# Altium footprint library ES_Pcb_x.PcbLib: 354 footprints (part 21 of 23)
Each footprint in its own frame and in the unit in brackets; x right, y up, seen from the top. Pads: shape width x height; smd on the part's side, far side on the other; paste and mask are expansions set on the pad; w line width, h text height; cw(c..) or ccw(c..) is an arc to the next point about the centre after c.
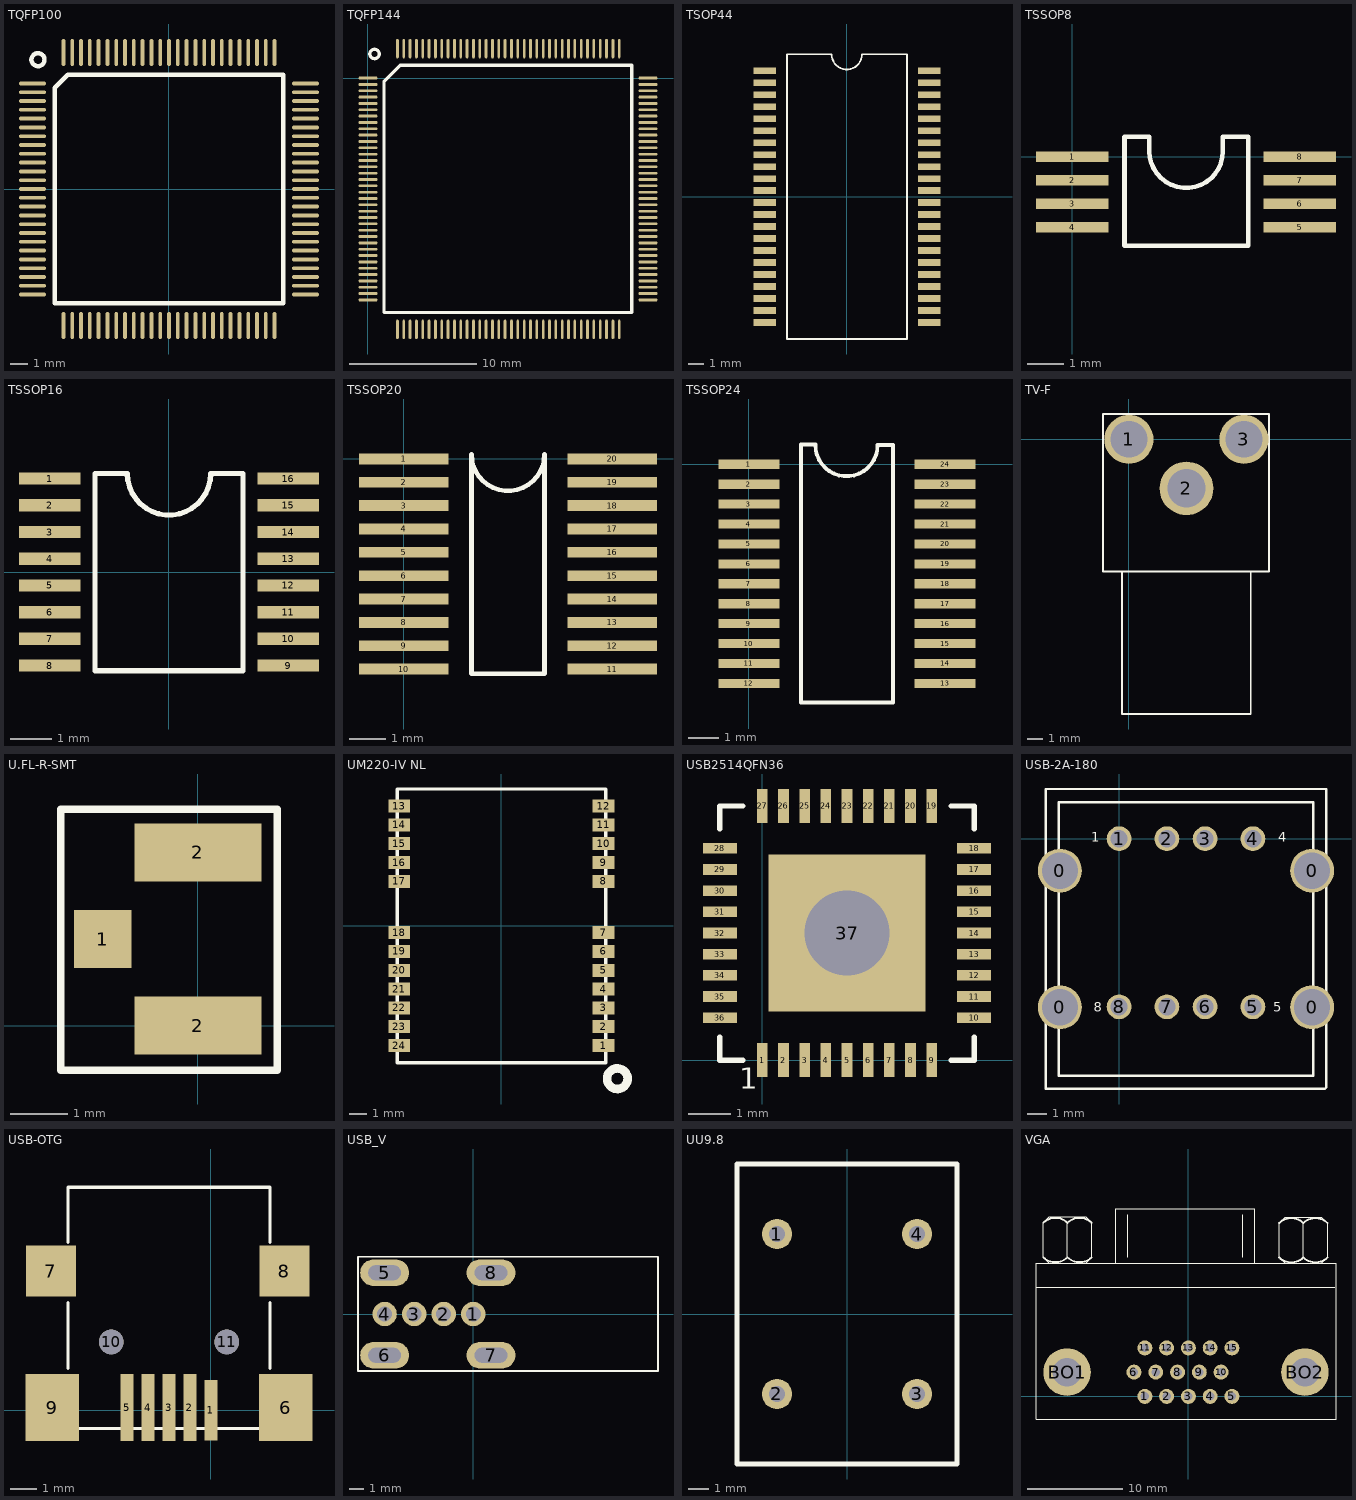
[diagram p20: the footprints below, top view; thin cyan lines are the x and y axes]

## TQFP100 [mm]
pads (100):
  oct 1.524x0.22 smd: 1(-7.762,6) 2(-7.762,5.5) 3(-7.762,5) 4(-7.762,4.5) 5(-7.762,4) 6(-7.762,3.5) 7(-7.762,3) 8(-7.762,2.5) 9(-7.762,2) 10(-7.762,1.5) 11(-7.762,1) 12(-7.762,0.5) 13(-7.762,0) 14(-7.762,-0.5) 15(-7.762,-1) 16(-7.762,-1.5) 17(-7.762,-2) 18(-7.762,-2.5) 19(-7.762,-3) 20(-7.762,-3.5) 21(-7.762,-4) 22(-7.762,-4.5) 23(-7.762,-5) 24(-7.762,-5.5) 25(-7.762,-6) 52(7.762,-5.5) 53(7.762,-5) 54(7.762,-4.5) 55(7.762,-4) 56(7.762,-3.5) 57(7.762,-3) 58(7.762,-2.5) 59(7.762,-2) 60(7.762,-1.5) 61(7.762,-1) 62(7.762,-0.5) 63(7.762,0) 64(7.762,0.5) 65(7.762,1) 66(7.762,1.5) 67(7.762,2) 68(7.762,2.5) 69(7.762,3) 70(7.762,3.5) 71(7.762,4) 72(7.762,4.5) 73(7.762,5) 74(7.762,5.5) 75(7.762,6)
  oct 0.22x1.524 smd: 26(-6,-7.762) 27(-5.5,-7.762) 28(-5,-7.762) 29(-4.5,-7.762) 30(-4,-7.762) 31(-3.5,-7.762) 32(-3,-7.762) 33(-2.5,-7.762) 34(-2,-7.762) 35(-1.5,-7.762) 36(-1,-7.762) 37(-0.5,-7.762) 38(0,-7.762) 39(0.5,-7.762) 40(1,-7.762) 41(1.5,-7.762) 42(2,-7.762) 43(2.5,-7.762) 44(3,-7.762) 45(3.5,-7.762) 46(4,-7.762) 47(4.5,-7.762) 48(5,-7.762) 49(5.5,-7.762) 50(6,-7.762) 76(6,7.762) 77(5.5,7.762) 78(5,7.762) 79(4.5,7.762) 80(4,7.762) 81(3.5,7.762) 82(3,7.762) 83(2.5,7.762) 84(2,7.762) 85(1.5,7.762) 86(1,7.762) 87(0.5,7.762) 88(0,7.762) 89(-0.5,7.762) 90(-1,7.762) 91(-1.5,7.762) 92(-2,7.762) 93(-2.5,7.762) 94(-3,7.762) 95(-3.5,7.762) 96(-4,7.762) 97(-4.5,7.762) 98(-5,7.762) 99(-5.5,7.762) 100(-6,7.762)
  oct 1.524x0.22 smd mask+0.102: 51(7.762,-6)
Top Overlay:
  circle w0.254: c-7.445,7.35 r0.37
  lines w0.254: -5.75,6.492 6.492,6.492 6.492,-6.492 -6.492,-6.492 -6.492,5.746 -5.748,6.49

## TQFP144 [mm]
pads (144):
  oct 1.524x0.22 smd: 1(0,0) 2(0,-0.5) 3(0,-1) 4(0,-1.5) 5(0,-2) 6(0,-2.5) 7(0,-3) 8(0,-3.5) 9(0,-4) 10(0,-4.5) 11(0,-5) 12(0,-5.5) 13(0,-6) 14(0,-6.5) 15(0,-7) 16(0,-7.5) 17(0,-8) 18(0,-8.5) 19(0,-9) 20(0,-9.5) 21(0,-10) 22(0,-10.5) 23(0,-11) 24(0,-11.5) 25(0,-12) 26(0,-12.5) 27(0,-13) 28(0,-13.5) 29(0,-14) 30(0,-14.5) 31(0,-15) 32(0,-15.5) 33(0,-16) 34(0,-16.5) 35(0,-17) 36(0,-17.5) 73(22.098,-17.5) 74(22.098,-17) 75(22.098,-16.5) 76(22.098,-16) 77(22.098,-15.5) 78(22.098,-15) 79(22.098,-14.5) 80(22.098,-14) 81(22.098,-13.5) 82(22.098,-13) 83(22.098,-12.5) 84(22.098,-12) 85(22.098,-11.5) 86(22.098,-11) 87(22.098,-10.5) 88(22.098,-10) 89(22.098,-9.5) 90(22.098,-9) 91(22.098,-8.5) 92(22.098,-8) 93(22.098,-7.5) 94(22.098,-7) 95(22.098,-6.5) 96(22.098,-6) 97(22.098,-5.5) 98(22.098,-5) 99(22.098,-4.5) 100(22.098,-4) 101(22.098,-3.5) 102(22.098,-3) 103(22.098,-2.5) 104(22.098,-2) 105(22.098,-1.5) 106(22.098,-1) 107(22.098,-0.5) 108(22.098,0)
  oct 0.22x1.524 smd: 37(2.323,-19.823) 38(2.823,-19.823) 39(3.323,-19.823) 40(3.823,-19.823) 41(4.323,-19.823) 42(4.823,-19.823) 43(5.323,-19.823) 44(5.823,-19.823) 45(6.323,-19.823) 46(6.823,-19.823) 47(7.323,-19.823) 48(7.823,-19.823) 49(8.323,-19.823) 50(8.823,-19.823) 51(9.323,-19.823) 52(9.823,-19.823) 53(10.323,-19.823) 54(10.823,-19.823) 55(11.323,-19.823) 56(11.823,-19.823) 57(12.323,-19.823) 58(12.823,-19.823) 59(13.323,-19.823) 60(13.823,-19.823) 61(14.323,-19.823) 62(14.823,-19.823) 63(15.323,-19.823) 64(15.823,-19.823) 65(16.323,-19.823) 66(16.823,-19.823) 67(17.323,-19.823) 68(17.823,-19.823) 69(18.323,-19.823) 70(18.823,-19.823) 71(19.323,-19.823) 72(19.823,-19.823) 109(19.823,2.323) 110(19.323,2.323) 111(18.823,2.323) 112(18.323,2.323) 113(17.823,2.323) 114(17.323,2.323) 115(16.823,2.323) 116(16.323,2.323) 117(15.823,2.323) 118(15.323,2.323) 119(14.823,2.323) 120(14.323,2.323) 121(13.823,2.323) 122(13.323,2.323) 123(12.823,2.323) 124(12.323,2.323) 125(11.823,2.323) 126(11.323,2.323) 127(10.823,2.323) 128(10.323,2.323) 129(9.823,2.323) 130(9.323,2.323) 131(8.823,2.323) 132(8.323,2.323) 133(7.823,2.323) 134(7.323,2.323) 135(6.823,2.323) 136(6.323,2.323) 137(5.823,2.323) 138(5.323,2.323) 139(4.823,2.323) 140(4.323,2.323) 141(3.823,2.323) 142(3.323,2.323) 143(2.823,2.323) 144(2.323,2.323)
Top Overlay:
  circle w0.254: c0.519,1.905 r0.37
  lines w0.254: 1.27,-18.496 1.27,-17.663 1.27,-0.254 2.54,1.016 19.839,1.016 20.819,1.016 20.819,-17.86 20.819,-18.496 20.073,-18.496 1.27,-18.496

## TSOP44 [mm]
pads (44):
  rect 1.5x0.45 smd: 1(-5.5,8.4) 2(-5.5,7.6) 3(-5.5,6.8) 4(-5.5,6) 5(-5.5,5.2) 6(-5.5,4.4) 7(-5.5,3.6) 8(-5.5,2.8) 9(-5.5,2) 10(-5.5,1.2) 11(-5.5,0.4) 12(-5.5,-0.4) 13(-5.5,-1.2) 14(-5.5,-2) 15(-5.5,-2.8) 16(-5.5,-3.6) 17(-5.5,-4.4) 18(-5.5,-5.2) 19(-5.5,-6) 20(-5.5,-6.8) 21(-5.5,-7.6) 22(-5.5,-8.4) 23(5.5,-8.4) 24(5.5,-7.6) 25(5.5,-6.8) 26(5.5,-6) 27(5.5,-5.2) 28(5.5,-4.4) 29(5.5,-3.6) 30(5.5,-2.8) 31(5.5,-2) 32(5.5,-1.2) 33(5.5,-0.4) 34(5.5,0.4) 35(5.5,1.2) 36(5.5,2) 37(5.5,2.8) 38(5.5,3.6) 39(5.5,4.4) 40(5.5,5.2) 41(5.5,6) 42(5.5,6.8) 43(5.5,7.6) 44(5.5,8.4)
Top Overlay:
  lines w0.127: 3.968,9.5 1,9.5 cw(c-0.016,9.5) -1.032,9.5 -4,9.5 -4,-9.5 4,-9.5 4,9.5

## TSSOP8 [mm]
pads (8):
  rect 2x0.3 smd: 1(0,0) 2(0,-0.65) 3(0,-1.3) 4(0,-1.95) 5(6.299,-1.95) 6(6.299,-1.3) 7(6.299,-0.65) 8(6.299,0)
Top Overlay:
  lines w0.127: 1.448,-2.464 1.448,0.559 2.138,0.559 2.138,0.152 ccw(c3.154,0.152) 4.17,0.152 4.17,0.559 4.877,0.559 4.877,-2.464 1.448,-2.464

## TSSOP16 [mm]
pads (16):
  rect 1.5x0.3 smd: 1(-2.9,2.275) 2(-2.9,1.625) 3(-2.9,0.975) 4(-2.9,0.325) 5(-2.9,-0.325) 6(-2.9,-0.975) 7(-2.9,-1.625) 8(-2.9,-2.275) 9(2.9,-2.275) 10(2.9,-1.625) 11(2.9,-0.975) 12(2.9,-0.325) 13(2.9,0.325) 14(2.9,0.975) 15(2.9,1.625) 16(2.9,2.275)
Top Overlay:
  lines w0.127: -1.8,-2.402 1.8,-2.402 1.8,2.402 1.016,2.402 cw(c0,2.402) -1.016,2.402 -1.8,2.402 -1.8,-2.402

## TSSOP20 [mm]
pads (20):
  rect 2.5x0.3 smd: 1(0,0) 2(0,-0.65) 3(0,-1.3) 4(0,-1.95) 5(0,-2.6) 6(0,-3.25) 7(0,-3.9) 8(0,-4.55) 9(0,-5.2) 10(0,-5.85) 11(5.8,-5.85) 12(5.8,-5.2) 13(5.8,-4.55) 14(5.8,-3.9) 15(5.8,-3.25) 16(5.8,-2.6) 17(5.8,-1.95) 18(5.8,-1.3) 19(5.8,-0.65) 20(5.8,0)
Top Overlay:
  lines w0.127: 1.884,-5.977 3.916,-5.977 3.916,0.127 cw(c2.9,0.127) 1.884,0.127 1.884,-5.977

## TSSOP24 [mm]
pads (24):
  rect 2x0.3 smd: 1(0,0) 2(0,-0.65) 3(0,-1.3) 4(0,-1.95) 5(0,-2.6) 6(0,-3.25) 7(0,-3.9) 8(0,-4.55) 9(0,-5.2) 10(0,-5.85) 11(0,-6.5) 12(0,-7.15) 13(6.4,-7.15) 14(6.4,-6.5) 15(6.4,-5.85) 16(6.4,-5.2) 17(6.4,-4.55) 18(6.4,-3.9) 19(6.4,-3.25) 20(6.4,-2.6) 21(6.4,-1.95) 22(6.4,-1.3) 23(6.4,-0.65) 24(6.4,0)
Top Overlay:
  lines w0.127: 2.168,0.625 ccw(c3.184,0.625) 4.2,0.625 ; 2.168,0.65 1.7,0.65 1.7,-7.775 4.7,-7.775 4.7,0.625 4.232,0.625

## TV-F [mm]
pads (3):
  round 3.2 hole 2.4: 1(0,0) 3(7.5,0)
  round 3.5 hole 2.5: 2(3.75,-3.2)
Top Overlay:
  lines w0.127: -1.626,-8.611 9.119,-8.611 9.119,-8.433 9.119,-8.5 9.119,1.448 9.119,1.397 9.119,1.651 -1.549,1.651 -1.422,1.651 -1.676,1.651 -1.676,-8.5 -1.676,-8.611 -1.473,-8.611 ; -0.457,-8.611 -0.457,-17.911 7.943,-17.911 7.943,-8.654 7.899,-8.611

## U.FL-R-SMT [mm]
pads (3):
  rect 1x1 smd: 1(-1.65,1.5)
  rect 2.2x1 smd: 2(0,0) 2(0,3)
Top Overlay:
  lines w0.127: -2.375,-0.775 -2.375,3.75 1.375,3.75 1.375,-0.775 -2.375,-0.775

## UM220-IV NL [mm]
pads (24):
  rect 1.27x0.76 smd: 1(5.975,-7) 2(5.975,-5.9) 3(5.975,-4.8) 4(5.975,-3.7) 5(5.975,-2.6) 6(5.975,-1.5) 7(5.975,-0.4) 8(5.975,2.6) 9(5.975,3.7) 10(5.975,4.8) 11(5.975,5.9) 12(5.975,7) 13(-5.975,7) 14(-5.975,5.9) 15(-5.975,4.8) 16(-5.975,3.7) 17(-5.975,2.6) 18(-5.975,-0.4) 19(-5.975,-1.5) 20(-5.975,-2.6) 21(-5.975,-3.7) 22(-5.975,-4.8) 23(-5.975,-5.9) 24(-5.975,-7)
Top Overlay:
  circle w0.5: c6.778,-8.94 r0.602
  lines w0.2: -6.1,-8 -6.1,8 6.1,8 6.1,-8 -6.1,-8

## USB2514QFN36 [mm]
pads (37):
  rect 0.25x0.8 smd: 1(0,0) 2(0.5,0) 3(1,0) 4(1.5,0) 5(2,0) 6(2.5,0) 7(3,0) 8(3.5,0) 9(4,0) 19(4,6) 20(3.5,6) 21(3,6) 22(2.5,6) 23(2,6) 24(1.5,6) 25(1,6) 26(0.5,6) 27(0,6)
  rect 0.8x0.25 smd: 10(5,1) 11(5,1.5) 12(5,2) 13(5,2.5) 14(5,3) 15(5,3.5) 16(5,4) 17(5,4.5) 18(5,5) 28(-1,5) 29(-1,4.5) 30(-1,4) 31(-1,3.5) 32(-1,3) 33(-1,2.5) 34(-1,2) 35(-1,1.5) 36(-1,1)
  rect 3.7x3.7 hole 2: 37(2,3)
Top Overlay:
  lines w0.127: -1,0.539 -1,0 -0.461,0 ; -1,5.461 -1,6 -0.461,6 ; 4.461,0 5,0 5,0.539 ; 4.461,6 5,6 5,5.461
  text "1" at -0.54,-0.683 h0.5

## USB-2A-180 [mm]
pads (12):
  round 2.3 hole 1.9: 0(-3.1,-8.825) 0(-3.1,-1.675) 0(10.1,-8.825) 0(10.1,-1.675)
  round 1.3 hole 0.9: 1(0,0) 2(2.5,0) 3(4.5,0) 4(7,0) 5(7,-8.8) 6(4.5,-8.8) 7(2.5,-8.8) 8(0,-8.8)
Top Overlay:
  lines w0.127: -3.15,-13.1 10.15,-13.1 10.757,-13.1 10.85,-13.007 10.85,-12.4 10.85,1.9 10.85,2.586 10.836,2.6 10.15,2.6 -3.85,2.6 -3.85,-13.102 -3.848,-13.1 -3.104,-13.1 ; -3.15,-12.4 -3.15,1.9 10.15,1.9 10.15,-12.4 -3.15,-12.4
  text "1" at -1.453,-0.164 h0.5
  text "4" at 8.326,-0.164 h0.5
  text "5" at 8.072,-9.054 h0.5
  text "8" at -1.326,-9.054 h0.5

## USB-OTG [mm]
pads (11):
  rect 0.508x2.3 smd: 1(0,0)
  rect 0.508x2.54 smd: 2(-0.8,0.1) 3(-1.6,0.1) 4(-2.4,0.1) 5(-3.2,0.1)
  rect 2.032x2.54 smd: 6(2.845,0.1) 9(-6.045,0.1)
  rect 1.9x1.95 smd: 7(-6.1,5.3) 8(2.8,5.3)
  round 0.94 hole 0.94 unplated: 10(-3.8,2.6) 11(0.6,2.6)
Top Overlay:
  lines w0.127: -5.45,1.6 -5.45,4.1 ; -5.45,6.4 -5.45,8.5 2.25,8.5 2.25,6.4 ; -5.4,-0.7 2.2,-0.7 ; 2.25,1.6 2.25,4.1

## USB_V [mil]
pads (8):
  round 65 hole 40: 1(0,0) 2(-78.74,0) 3(-157.48,0) 4(-236.22,0)
  oval 130x70.87 hole 39.37 slot 86.61 at 0 deg: 5(-236.22,110) 6(-236.22,-110) 7(47.24,-110) 8(47.24,110)
Top Overlay:
  lines w5: -307.09,-151.57 492.13,-151.57 492.13,152.56 -307.09,152.56 -307.09,-151.57

## UU9.8 [mm]
pads (4):
  round 1.524 hole 0.8: 1(-3.5,4) 2(-3.5,-4) 3(3.5,-4) 4(3.5,4)
Top Overlay:
  lines w0.254: -5.5,-7.5 5.5,-7.5 5.5,7.5 -5.5,7.5 -5.5,-7.5

## VGA [mil]
pads (17):
  round 62 hole 35: 1(-180,0) 2(-90,0) 3(0,0) 4(90,0) 5(180,0) 6(-225,100) 8(-45,100) 9(45,100) 10(135,100) 11(-180,200) 12(-90,200) 13(0,200) 14(90,200) 15(180,200)
  oval 60x62 hole 35: 7(-135,100)
  round 196.67 hole 118.33: BO1(-501.67,100) BO2(481.67,100)
Top Overlay:
  lines w5: -628.33,450.83 605,450.83 ; -574.91,550.09 -599.91,575.09 -599.91,716.75 -574.91,741.75 -424.91,741.75 -399.91,716.75 -399.91,575.09 -424.91,550.09 ; -499.91,575.09 -499.91,716.75 ; -300,550 -300,775 275,775 275,550 ; -250,575 -250,750 ; 225,575 225,750 ; 400,549.17 375,574.17 375,715.83 400,740.83 550,740.83 575,715.83 575,574.17 550,549.17 ; 475,574.17 475,715.83 ; -630,-94.37 610,-94.37 610,550 -630,550 -630,-94.37
  lines w8: -600,575 ccw(c-549.91,625.09) -499.83,575 ; -600,716.84 cw(c-549.91,666.75) -499.83,716.84 ; -500,575 ccw(c-449.91,625.09) -399.83,575 ; -500,716.84 cw(c-449.91,666.75) -399.83,716.84 ; 374.91,574.08 ccw(c425,624.17) 475.09,574.08 ; 374.91,715.92 cw(c425,665.83) 475.09,715.92 ; 474.91,574.08 ccw(c525,624.17) 575.09,574.08 ; 474.91,715.92 cw(c525,665.83) 575.09,715.92